# EAGLE library part MAX44006 (library MAX44006)
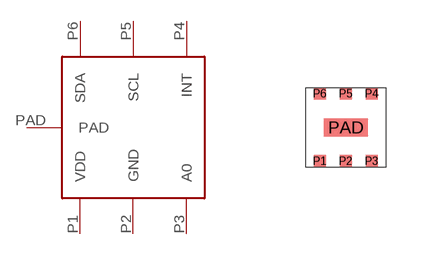
[diagram p0: symbol with the pads of 6OTDFN; footprint 6OTDFN]

Designator prefix -

## MAX44006  [6OTDFN]
P1  VDD
P2  GND
P3  A0
P4  INT
P5  SCL
P6  SDA
PAD  PAD

## Footprint 6OTDFN (pad centres in mm)
smd 0.3 x 0.3: P1 -0.65,-0.845; P2 0,-0.845; P3 0.65,-0.845; P4 0.65,0.845; P5 0,0.845; P6 -0.65,0.845
smd 1.1 x 0.45: PAD 0.01,0